# Altium footprint library Resistors.PcbLib: 6 footprints
Each footprint in its own frame and in the unit in brackets; x right, y up, seen from the top. Pads: shape width x height; smd on the part's side, far side on the other; paste and mask are expansions set on the pad; w line width, h text height; cw(c..) or ccw(c..) is an arc to the next point about the centre after c.
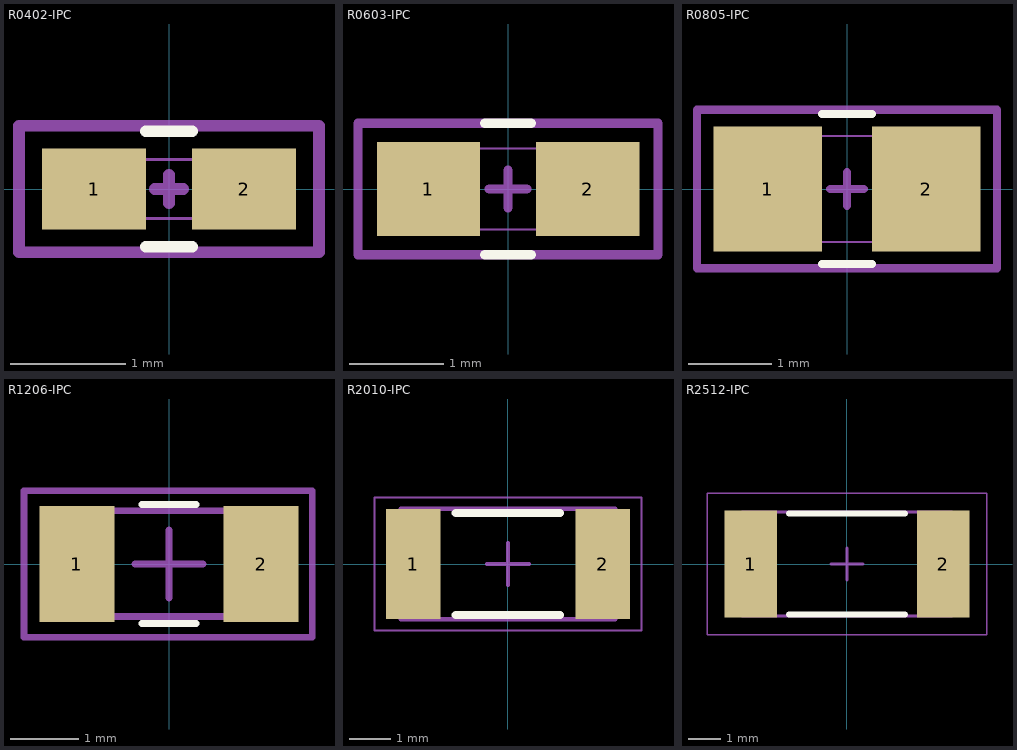
[diagram p0: the footprints below, top view; thin cyan lines are the x and y axes]

## R0402-IPC [mm]
pads (2):
  rect 0.9x0.7 smd: 1(-0.65,0) 2(0.65,0)
Top Overlay:
  lines w0.1: -0.2,-0.5 0.2,-0.5 ; -0.2,0.5 0.2,0.5
Top Assy Drawing:
  lines w0.025: -0.508,-0.254 -0.508,0.254 0.508,0.254 0.508,-0.254 -0.508,-0.254
Mechanical 15:
  lines w0.1: -0.125,0 0.125,0 ; 0,-0.125 0,0.125 ; -1.3,-0.55 -1.3,0.55 1.3,0.55 1.3,-0.55 -1.3,-0.55
3D body "RES0402.STEP": height 0.34, standoff -0.02, extent -0.5,-0.255 0.5,0.255

## R0603-IPC [mm]
pads (2):
  rect 1.1x1 smd mask+0.15: 1(-0.85,0) 2(0.85,0)
Top Overlay:
  lines w0.1: -0.25,-0.7 0.25,-0.7 ; -0.25,0.7 0.25,0.7
Top Assy Drawing:
  lines w0.025: -0.787,-0.432 -0.787,0.432 0.787,0.432 0.787,-0.432 -0.787,-0.432
Mechanical 15:
  lines w0.1: -0.2,0 0.2,0 ; 0,-0.2 0,0.2 ; -1.6,-0.7 1.6,-0.7 1.6,0.7 -1.6,0.7 -1.6,-0.7
3D body "RES0603.STEP": height 0.44, standoff -0.02, extent -0.775,-0.43 0.775,0.43

## R0805-IPC [mm]
pads (2):
  rect 1.3x1.5 smd: 1(-0.95,0) 2(0.95,0)
Top Overlay:
  lines w0.1: -0.3,-0.9 0.3,-0.9 ; -0.3,0.9 0.3,0.9
Top Assy Drawing:
  lines w0.025: -1.016,-0.635 -1.016,0.635 1.016,0.635 1.016,-0.635 -1.016,-0.635
Mechanical 15:
  lines w0.1: -0.2,0 0.2,0 ; 0,-0.2 0,0.2 ; -1.8,-0.95 1.8,-0.95 1.8,0.95 -1.8,0.95 -1.8,-0.95
3D body "RES0805.STEP": height 0.44, standoff -0.02, extent -1,-0.63 1,0.63

## R1206-IPC [mm]
pads (2):
  rect 1.1x1.7 smd: 1(-1.35,0) 2(1.35,0)
Top Overlay:
  lines w0.1: -0.4,-0.875 0.4,-0.875 ; -0.4,0.875 0.4,0.875
Top Assy Drawing:
  lines w0.1: -0.5,0 0.5,0 ; 0,-0.5 0,0.5 ; -2.125,-1.075 2.1,-1.075 2.1,1.075 -2.125,1.075 -2.125,-1.075
Top Dimensions and Assy Info:
  lines w0.1: -1.525,-0.772 1.55,-0.772 1.55,0.78 -1.525,0.78 -1.525,-0.772
3D body "RES1206.stp": height 0.55, standoff 0, extent -1.55,-0.772 1.55,0.78

## R2010-IPC [mm] "Chip Resistor, 2-Leads, Body 5.00x2.50mm, IPC Medium Density"
height 0.7
pads (2):
  rect 1.3x2.65 smd: 1(-2.275,0) 2(2.275,0)
Top Overlay:
  lines w0.2: -1.25,-1.225 1.25,-1.225 ; -1.25,1.225 1.25,1.225
3D Bodies:
  lines w0.1: -2.575,-1.325 2.575,-1.325 2.575,1.325 -2.575,1.325 -2.575,-1.325
Mechanical 15:
  lines w0.05: -3.2,-1.6 3.2,-1.6 3.2,1.6 -3.2,1.6 -3.2,-1.6
  lines w0.1: -0.5,0 0.5,0 ; 0,-0.5 0,0.5
3D body: height 0.7, standoff 0, extent 1.975,-1.325 2.575,1.325
3D body: height 0.7, standoff 0, extent -2.575,-1.325 -1.975,1.325
3D body: height 0.7, standoff 0, extent -1.975,-1.325 1.975,1.325

## R2512-IPC [mm] "Chip Resistor, 2-Leads, Body 6.35x3.10mm, IPC Low Density"
height 0.7
pads (2):
  rect 1.65x3.35 smd: 1(-3,0) 2(3,0)
Top Overlay:
  lines w0.2: -1.8,-1.575 1.8,-1.575 ; -1.8,1.575 1.8,1.575
3D Bodies:
  lines w0.1: -3.275,-1.625 -3.275,1.625 3.275,1.625 3.275,-1.625 -3.275,-1.625
Mechanical 15:
  lines w0.05: -4.35,-2.2 -4.35,2.2 4.35,2.2 4.35,-2.2 -4.35,-2.2
  lines w0.1: -0.5,0 0.5,0 ; 0,-0.5 0,0.5
3D body: height 0.7, standoff 0, extent -2.675,-1.625 2.675,1.625
3D body: height 0.7, standoff 0, extent -3.275,-1.625 -2.675,1.625
3D body: height 0.7, standoff 0, extent 2.675,-1.625 3.275,1.625